# EAGLE library part TB6560 (library TB6560)
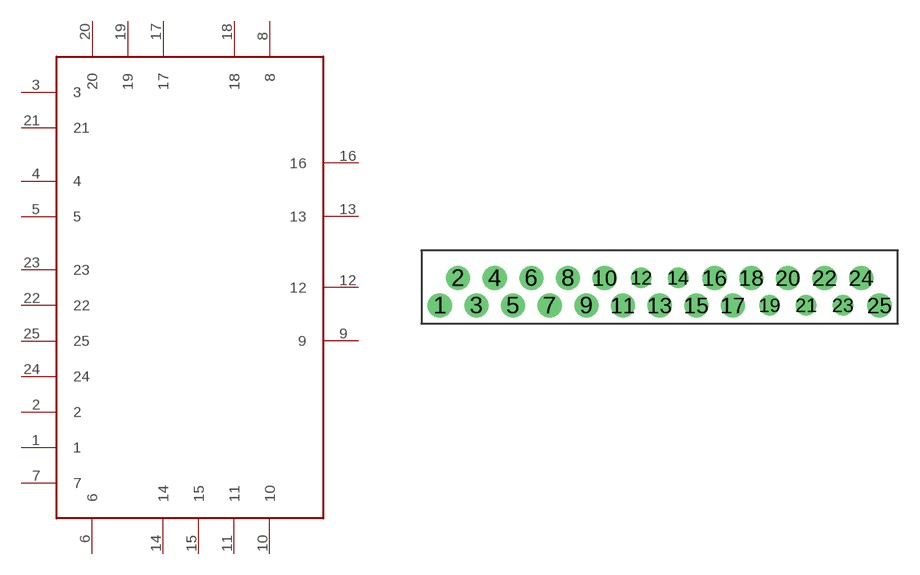
[diagram p0: symbol with the pads of ZIP25; footprint ZIP25]

Designator prefix -

## TB6560  [ZIP25]
1  1
2  2
3  3
4  4
5  5
6  6
7  7
8  8
9  9  out
10  10
11  11
12  12  out
13  13  out
14  14
15  15
16  16  out
17  17
18  18
19  19
20  20
21  21
22  22
23  23
24  24
25  25

## Footprint ZIP25 (pad centres in mm)
drill 0.8 pad 1.676 round: 1 -15.24,-1.27; 2 -13.97,0.635; 3 -12.7,-1.27; 4 -11.43,0.635; 5 -10.16,-1.27; 6 -8.89,0.635; 7 -7.62,-1.27; 8 -6.35,0.635; 9 -5.08,-1.27; 10 -3.81,0.635; 11 -2.54,-1.27; 13 0,-1.27; 15 2.54,-1.27; 16 3.81,0.635; 17 5.08,-1.27; 18 6.35,0.635; 20 8.89,0.635; 22 11.43,0.635; 24 13.97,0.635; 25 15.24,-1.27
drill 0.8 pad 1.422 round: 12 -1.27,0.635; 14 1.27,0.635; 19 7.62,-1.27; 21 10.16,-1.27; 23 12.7,-1.27